# EAGLE library part PCM3168A (library Rebel)
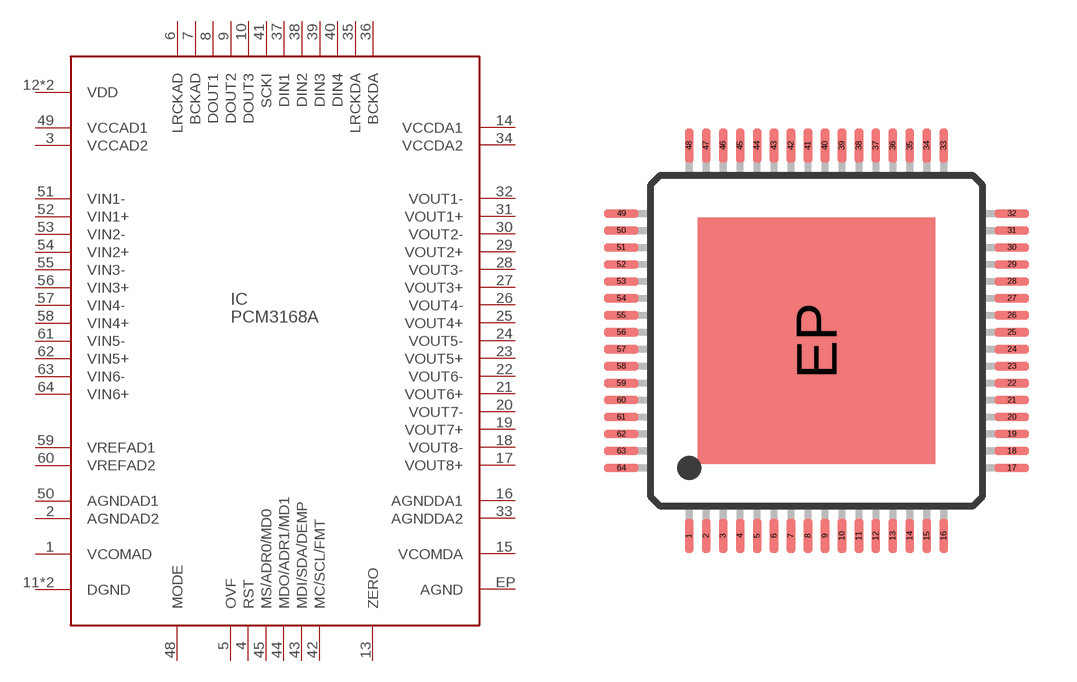
[diagram p40: symbol with the pads of PQFP64; footprint PQFP64]

Designator prefix IC

## PCM3168A  [PQFP64]
1  VCOMAD
2  AGNDAD2
3  VCCAD2
4  RST
5  OVF
6  LRCKAD
7  BCKAD
8  DOUT1
9  DOUT2
10  DOUT3
11  DGND
12  VDD
13  ZERO
14  VCCDA1
15  VCOMDA
16  AGNDDA1
17  VOUT8+
18  VOUT8-
19  VOUT7+
20  VOUT7-
21  VOUT6+
22  VOUT6-
23  VOUT5+
24  VOUT5-
25  VOUT4+
26  VOUT4-
27  VOUT3+
28  VOUT3-
29  VOUT2+
30  VOUT2-
31  VOUT1+
32  VOUT1-
33  AGNDDA2
34  VCCDA2
35  LRCKDA
36  BCKDA
37  DIN1
38  DIN2
39  DIN3
40  DIN4
41  SCKI
42  MC/SCL/FMT
43  MDI/SDA/DEMP
44  MDO/ADR1/MD1
45  MS/ADR0/MD0
46  VDD
47  DGND
48  MODE
49  VCCAD1
50  AGNDAD1
51  VIN1-
52  VIN1+
53  VIN2-
54  VIN2+
55  VIN3-
56  VIN3+
57  VIN4-
58  VIN4+
59  VREFAD1
60  VREFAD2
61  VIN5-
62  VIN5+
63  VIN6-
64  VIN6+
EP  AGND

## Footprint PQFP64 (pad centres in mm)
LQFP64
smd 0.25 x 1: 1 -3.75,-5.75; 2 -3.25,-5.75; 3 -2.75,-5.75; 4 -2.25,-5.75; 5 -1.75,-5.75; 6 -1.25,-5.75; 7 -0.75,-5.75; 8 -0.25,-5.75; 9 0.25,-5.75; 10 0.75,-5.75; 11 1.25,-5.75; 12 1.75,-5.75; 13 2.25,-5.75; 14 2.75,-5.75; 15 3.25,-5.75; 16 3.75,-5.75; 33 3.75,5.75; 34 3.25,5.75; 35 2.75,5.75; 36 2.25,5.75; 37 1.75,5.75; 38 1.25,5.75; 39 0.75,5.75; 40 0.25,5.75; 41 -0.25,5.75; 42 -0.75,5.75; 43 -1.25,5.75; 44 -1.75,5.75; 45 -2.25,5.75; 46 -2.75,5.75; 47 -3.25,5.75; 48 -3.75,5.75
smd 1 x 0.25: 17 5.75,-3.75; 18 5.75,-3.25; 19 5.75,-2.75; 20 5.75,-2.25; 21 5.75,-1.75; 22 5.75,-1.25; 23 5.75,-0.75; 24 5.75,-0.25; 25 5.75,0.25; 26 5.75,0.75; 27 5.75,1.25; 28 5.75,1.75; 29 5.75,2.25; 30 5.75,2.75; 31 5.75,3.25; 32 5.75,3.75; 49 -5.75,3.75; 50 -5.75,3.25; 51 -5.75,2.75; 52 -5.75,2.25; 53 -5.75,1.75; 54 -5.75,1.25; 55 -5.75,0.75; 56 -5.75,0.25; 57 -5.75,-0.25; 58 -5.75,-0.75; 59 -5.75,-1.25; 60 -5.75,-1.75; 61 -5.75,-2.25; 62 -5.75,-2.75; 63 -5.75,-3.25; 64 -5.75,-3.75
smd 7 x 7.26: EP 0,0